# Altium footprint library 电子脚铐便携式主控板V3-改版.PcbLib: 17 footprints (part 1 of 2)
Each footprint in its own frame and in the unit in brackets; x right, y up, seen from the top. Pads: shape width x height; smd on the part's side, far side on the other; paste and mask are expansions set on the pad; w line width, h text height; cw(c..) or ccw(c..) is an arc to the next point about the centre after c.
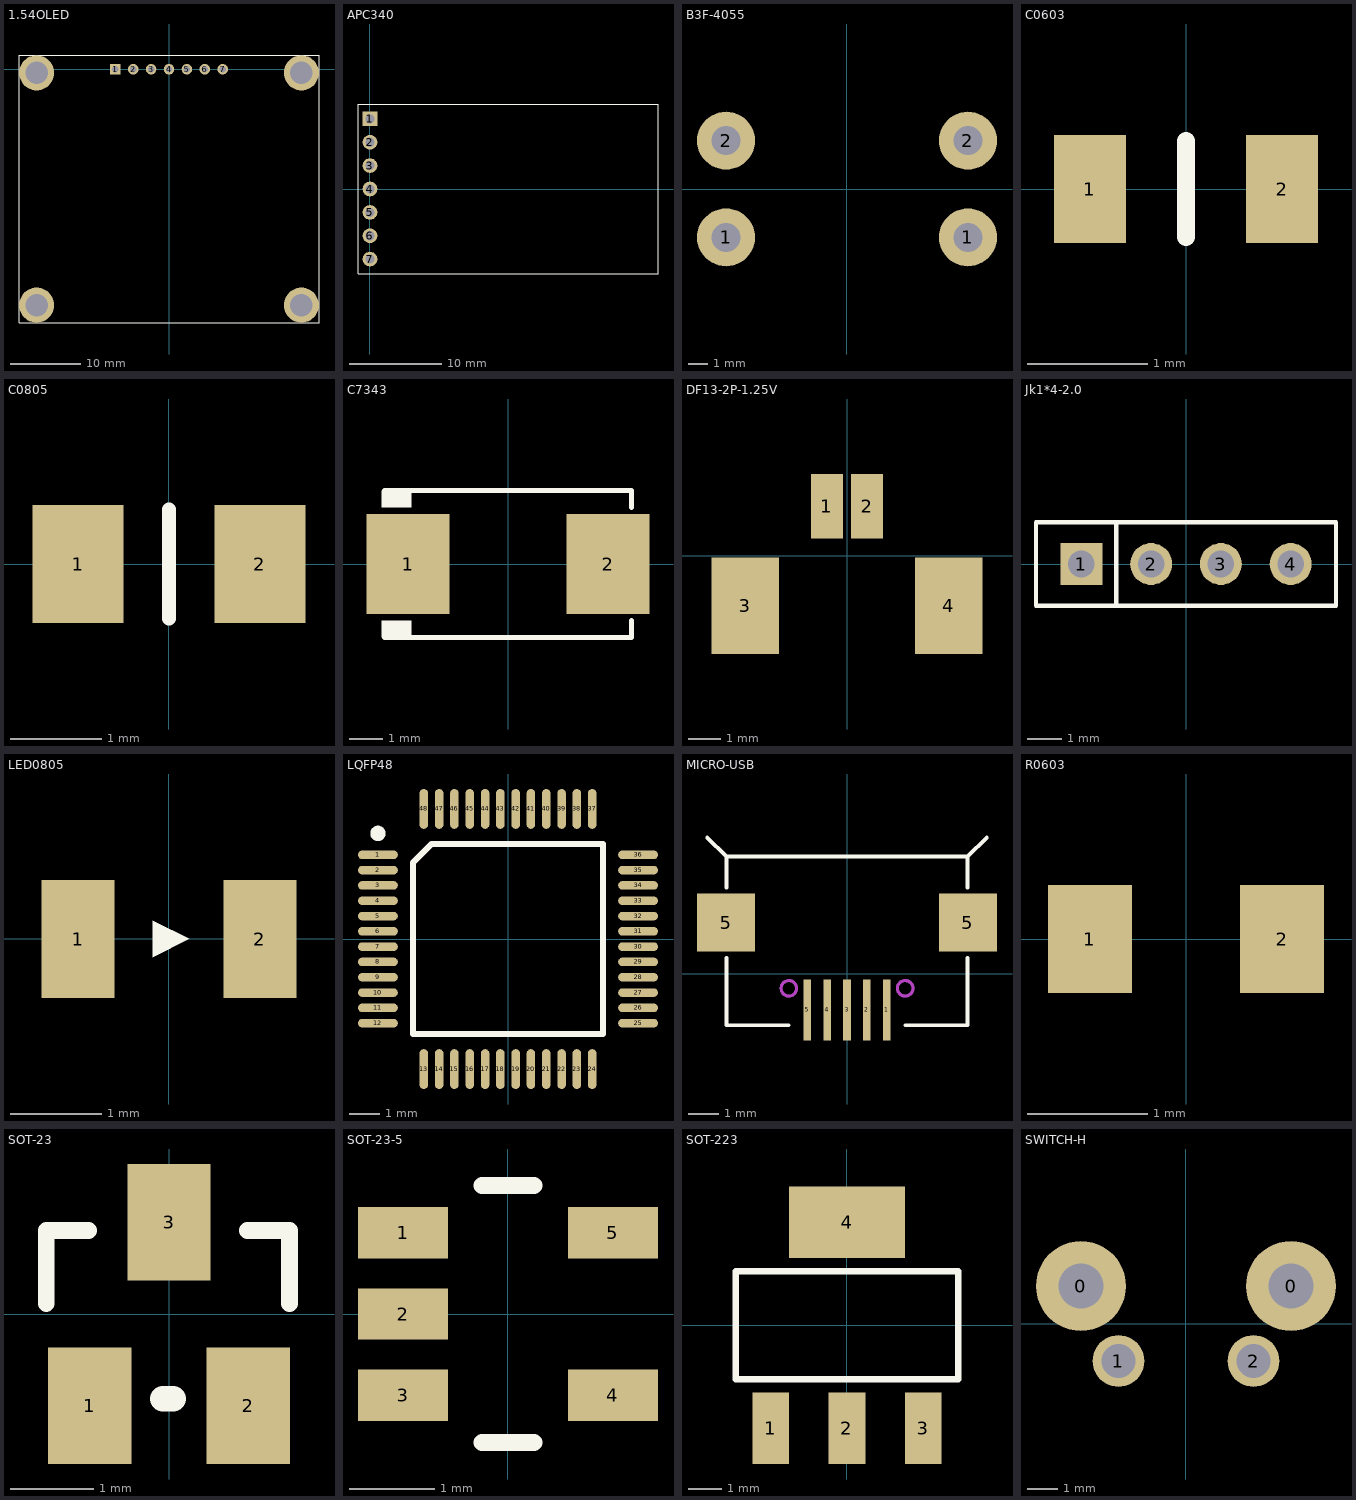
[diagram p0: the footprints below, top view; thin cyan lines are the x and y axes]

## 1.54OLED [mm] "Connector; Header; 7 Position"
pads (11):
  rect 1.5x1.5 hole 0.9: 1(-7.62,0)
  round 1.5 hole 0.9: 2(-5.08,0) 3(-2.54,0) 4(0,0) 5(2.54,0) 6(5.08,0) 7(7.62,0)
  round 5 hole 3.2: ""(-18.8,-33.5) ""(-18.8,-0.5) ""(18.8,-33.5) ""(18.8,-0.5)
Top Overlay:
  lines w0.127: -21.3,-36 -21.3,2 21.3,2 21.3,-36 -21.3,-36
3D body: height 7.7, standoff 3, extent -21.3,-35.968 21.3,2.032

## APC340 [mm]
height 6
pads (7):
  rect 1.6x1.6 hole 1: 1(0,7.62)
  round 1.6 hole 1: 2(0,5.08) 3(0,2.54) 4(0,0) 5(0,-2.54) 6(0,-5.08) 7(0,-7.62)
Top Overlay:
  lines w0.127: -1.3,-9.2 31.3,-9.2 31.3,9.2 -1.3,9.2 -1.3,-9.2
3D body: height 2, standoff 0, extent -1,-9.15 31.2,9.15

## B3F-4055 [mm]
height 4.3
pads (4):
  round 3 hole 1.5: 1(-6.25,-2.5) 1(6.25,-2.5) 2(-6.25,2.5) 2(6.25,2.5)
3D body: height 7.3, standoff -3.5, extent -6.9,-6 6.9,6

## C0603 [mm]
height 0.8
pads (2):
  rect 0.6x0.9 smd: 1(-0.8,0) 2(0.8,0)
Top Overlay:
  lines w0.152: 0,-0.4 0,0.4
3D body: height 0.5, standoff 0, extent -0.8,-0.4 0.8,0.4

## C0805 [mm]
height 1.25
pads (2):
  rect 1x1.3 smd: 1(-1,0) 2(1,0)
Top Overlay:
  lines w0.152: 0,-0.6 0,0.6
3D body: height 0.8, standoff 0, extent -1,-0.625 1,0.625

## C7343 [mm] "100uF/25V"
height 4.2
pads (2):
  rect 2.5x3 smd: 1(-3,0) 2(3,0)
Top Overlay:
  rectangle: -3.8,-2.2 -2.9,-1.7
  rectangle: -3.8,1.7 -2.9,2.2
  lines w0.152: -3.7,-2.2 3.7,-2.2 3.7,-1.7 ; -3.7,2.2 3.7,2.2 3.7,1.7
3D body: height 2.9, standoff 0, extent -3.874,-2.15 3.875,2.15

## DF13-2P-1.25V [mm]
height 0.762
pads (4):
  rect 1x2 smd: 1(-0.625,1.55) 2(0.625,1.55)
  rect 2.1x3 smd: 3(-3.175,-1.55) 4(3.175,-1.55)
3D body: height 4.8, standoff 0.1, extent -3.825,-2.413 3.825,1.787

## Jk1*4-2.0 [mm] "4P，直插，2.0mm间距，排母"
height 4.3
pads (4):
  rect 1.2x1.2 hole 0.762: 1(-3,0)
  round 1.2 hole 0.762: 2(-1,0) 3(1,0) 4(3,0)
Top Overlay:
  lines w0.127: -2,-1.2 -2,1.2 ; -4.3,-1.2 -4.3,1.2 4.3,1.2 4.3,-1.2 -4.3,-1.2
3D body: height 4.3, standoff -3, extent -4.25,-1.225 4.25,1.175

## LED0805 [mm]
height 4.3
pads (2):
  rect 0.8x1.3 smd: 1(-1,0) 2(1,0)
Top Overlay:
  region: -0.176,0.2 -0.176,-0.2 0.224,0
3D body: height 0.8, standoff 0, extent -1.05,-0.675 1.05,0.675

## LQFP48 [mm]
height 1.6
pads (48):
  oval 1.3x0.28 smd: 1(-4.25,2.75) 2(-4.25,2.25) 3(-4.25,1.75) 4(-4.25,1.25) 5(-4.25,0.75) 6(-4.25,0.25) 7(-4.25,-0.25) 8(-4.25,-0.75) 9(-4.25,-1.25) 10(-4.25,-1.75) 11(-4.25,-2.25) 12(-4.25,-2.75) 25(4.25,-2.75) 26(4.25,-2.25) 27(4.25,-1.75) 28(4.25,-1.25) 29(4.25,-0.75) 30(4.25,-0.25) 31(4.25,0.25) 32(4.25,0.75) 33(4.25,1.25) 34(4.25,1.75) 35(4.25,2.25) 36(4.25,2.75)
  oval 0.28x1.3 smd: 13(-2.75,-4.25) 14(-2.25,-4.25) 15(-1.75,-4.25) 16(-1.25,-4.25) 17(-0.75,-4.25) 18(-0.25,-4.25) 19(0.25,-4.25) 20(0.75,-4.25) 21(1.25,-4.25) 22(1.75,-4.25) 23(2.25,-4.25) 24(2.75,-4.25) 37(2.75,4.25) 38(2.25,4.25) 39(1.75,4.25) 40(1.25,4.25) 41(0.75,4.25) 42(0.25,4.25) 43(-0.25,4.25) 44(-0.75,4.25) 45(-1.25,4.25) 46(-1.75,4.25) 47(-2.25,4.25) 48(-2.75,4.25)
Top Overlay:
  circle w0.25: c-4.25,3.45 r0.125
  lines w0.203: -3.1,-3.1 3.1,-3.1 3.1,3.1 -2.5,3.1 -3.1,2.5 -3.1,-3.1
3D body: height 1.8, standoff -0.01, extent -4.495,-4.5 4.505,4.5

## MICRO-USB [mm]
height 3.632
pads (7):
  rect 0.25x2 smd: 1(1.3,-1.179) 2(0.65,-1.179) 3(0,-1.179) 4(-0.65,-1.179) 5(-1.3,-1.179)
  rect 1.9x1.9 smd: 5(-3.95,1.679) 5(3.95,1.679)
Top Overlay:
  lines w0.127: -4.567,4.459 -3.937,3.829 -3.937,2.813 ; -3.937,-1.679 -3.937,0.527 ; -3.9,-1.679 -1.905,-1.679 ; -3.9,3.829 3.9,3.829 ; 1.905,-1.679 3.9,-1.679 ; 3.937,-1.679 3.937,0.527 ; 3.937,2.813 3.937,3.829 4.567,4.459
Keep-Out Layer:
  circle w0.102: c-1.9,-0.471 r0.254
  circle w0.102: c1.9,-0.471 r0.254
Mechanical 1:
  circle w0.102: c1.9,-0.471 r0.254
  circle w0.102: c-1.9,-0.471 r0.254
3D body: height 2.77, standoff -0.17, extent -4.1,-1.753 4.1,4.177

## R0603 [mm]
height 0.4
pads (2):
  rect 0.7x0.9 smd: 1(-0.8,0) 2(0.8,0)
3D body: height 0.37, standoff 0, extent -0.8,-0.401 0.8,0.401

## SOT-23 [mm]
height 3.632
pads (3):
  rect 1x1.4 smd: 1(-0.95,-1.1) 2(0.95,-1.1) 3(0,1.1)
Top Overlay:
  lines w0.203: -1.473,0.127 -1.473,1 -0.965,1 ; 0.94,1 1.448,1 1.448,0.127
  lines w0.305: -0.076,-1.016 0.051,-1.016
3D body: height 1.09, standoff 0, extent -1.41,-1.003 1.384,1.422

## SOT-23-5 [mm]
height 4.3
pads (5):
  rect 1.05x0.6 smd: 1(-1.225,0.95) 2(-1.225,0) 3(-1.225,-0.95) 4(1.225,-0.95) 5(1.225,0.95)
Top Overlay:
  lines w0.2: -0.3,-1.5 0.3,-1.5 ; -0.3,1.5 0.3,1.5
3D body: height 1.2, standoff -0.02, extent -1.5,-1.5 1.5,1.5

## SOT-223 [mm]
height 1.8
pads (4):
  rect 1.1x2.15 smd: 1(-2.3,-3.1) 2(0,-3.1) 3(2.3,-3.1)
  rect 3.5x2.15 smd: 4(0,3.1)
Top Overlay:
  lines w0.2: -3.35,-1.625 3.35,-1.625 3.35,1.625 -3.35,1.625 -3.35,-1.625
3D body: height 1.8, standoff 0, extent -3.15,-3.3 3.15,3.3

## SWITCH-H [mm]
height 3.632
pads (4):
  round 3 hole 1.5: 0(-3.5,1.25) 0(3.5,1.25)
  round 1.727 hole 1.143: 1(-2.25,-1.25) 2(2.25,-1.25)
3D body: height 7.37, standoff -3.5, extent -4.23,-5.26 4.133,2.71